# EAGLE library part FE06W (library con-lsta)
FEMALE HEADER
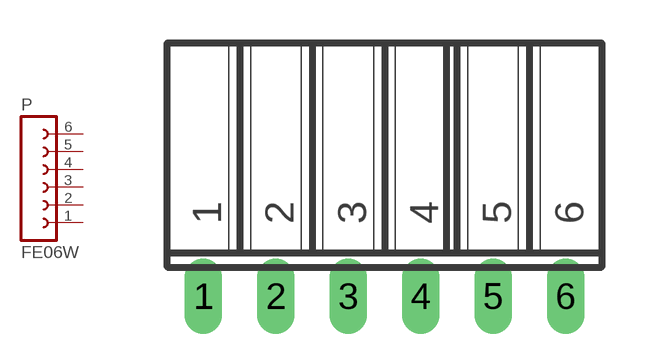
[diagram p28: symbol with the pads of FE06W; footprint FE06W]

Designator prefix P

## FE06W  [FE06W]
1  1  pas
2  2  pas
3  3  pas
4  4  pas
5  5  pas
6  6  pas

## Footprint FE06W (pad centres in mm)
FEMALE HEADER
drill 0.813 long: 1 -6.35,0; 2 -3.81,0; 3 -1.27,0; 4 1.27,0; 5 3.81,0; 6 6.35,0